# Altium footprint library Raspberry_pi_b++V1.2.PcbLib: 1 footprints
Each footprint in its own frame and in the unit in brackets; x right, y up, seen from the top. Pads: shape width x height; smd on the part's side, far side on the other; paste and mask are expansions set on the pad; w line width, h text height; cw(c..) or ccw(c..) is an arc to the next point about the centre after c.
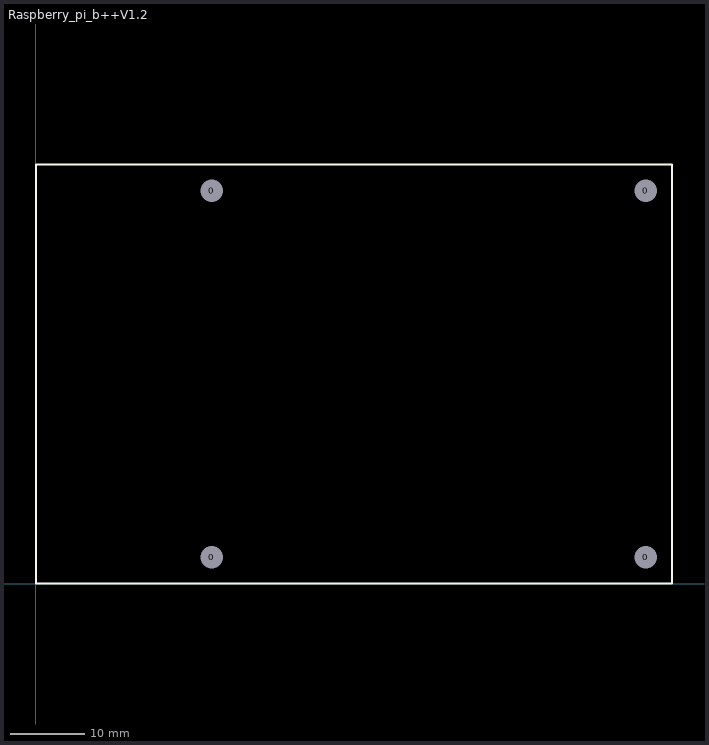
[diagram p0: the footprint, top view; thin cyan lines are the x and y axes]

## Raspberry_pi_b++V1.2 [mm]
pads (4):
  round 1.524 hole 3: 0(23.5,3.5) 0(23.5,52.5) 0(81.5,3.5) 0(81.5,52.5)
Top Overlay:
  lines w0.254: 0,0 0,56 85,56 85,0 0,0